# Altium footprint library RD712S033R.PcbLib: 1 footprints
Each footprint in its own frame and in the unit in brackets; x right, y up, seen from the top. Pads: shape width x height; smd on the part's side, far side on the other; paste and mask are expansions set on the pad; w line width, h text height; cw(c..) or ccw(c..) is an arc to the next point about the centre after c.
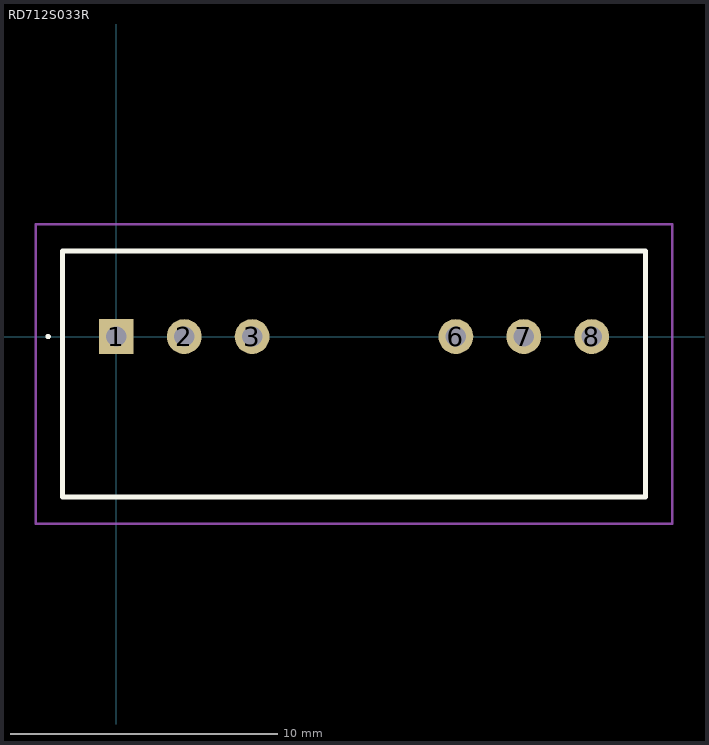
[diagram p0: the footprint, top view; thin cyan lines are the x and y axes]

## RD712S033R [mm]
pads (6):
  rect 1.303x1.303 hole 0.76: 1(0,0)
  round 1.303 hole 0.76: 2(2.54,0) 3(5.08,0) 6(12.7,0) 7(15.24,0) 8(17.78,0)
Top Overlay:
  lines w0.1: -2.6,0 -2.6,0 ; -2.6,0 ccw(c-2.55,0) -2.5,0 ; -2.6,0 cw(c-2.55,0) -2.5,0 ; -2.5,0 -2.5,0
  lines w0.2: -2.01,-6 19.79,-6 19.79,3.2 -2.01,3.2 -2.01,-6
Mechanical 15:
  lines w0.1: -2.01,-6 19.79,-6 19.79,3.2 -2.01,3.2 -2.01,-6
Mechanical 20:
  lines w0.1: -3.01,-7 20.79,-7 20.79,4.2 -3.01,4.2 -3.01,-7